# Altium footprint library Adams Altium Library.PcbLib: 104 footprints (part 2 of 7)
Each footprint in its own frame and in the unit in brackets; x right, y up, seen from the top. Pads: shape width x height; smd on the part's side, far side on the other; paste and mask are expansions set on the pad; w line width, h text height; cw(c..) or ccw(c..) is an arc to the next point about the centre after c.
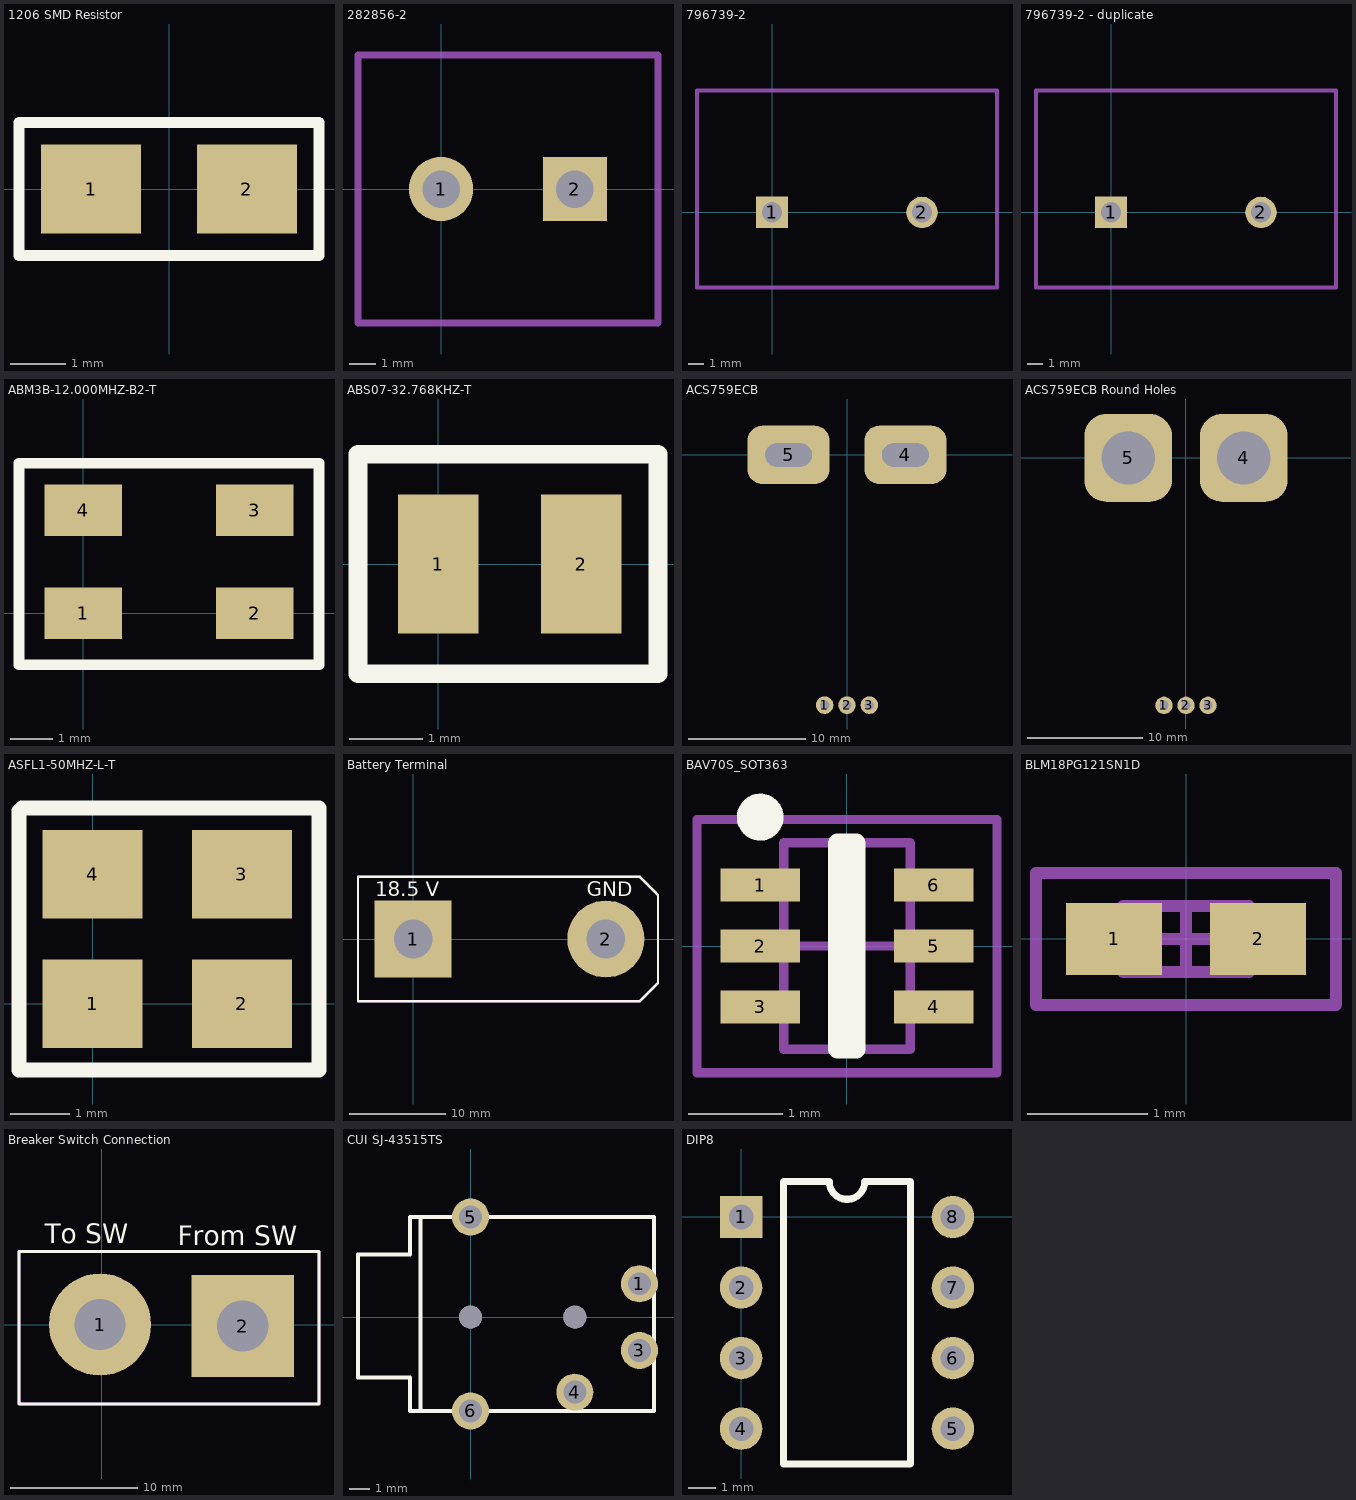
[diagram p1: the footprints below, top view; thin cyan lines are the x and y axes]

## 1206 SMD Resistor [mm]
pads (2):
  rect 1.8x1.6 smd: 1(-1.4,0) 2(1.4,0)
Top Overlay:
  lines w0.2: -2.7,-1.2 -2.7,0 -2.7,1.2 2.7,1.2 2.7,-1.2 -2.7,-1.2

## 282856-2 [mm] "Screw Terminal  two pole"
height 19
pads (2):
  round 2.4 hole 1.4: 1(0,0)
  rect 2.4x2.4 hole 1.4: 2(5,0)
Mechanical 13:
  lines w0.254: -3.1,-5 -3.1,5 8.1,5 8.1,-5 -3.1,-5

## 796739-2 [mm] "796739-2 Screw Terminal"
height 9.53
pads (2):
  rect 2x2 hole 1.3: 1(0,0)
  round 2 hole 1.3: 2(9.52,0)
Mechanical 1:
  lines w0.254: -4.76,-4.76 -4.76,7.74 14.28,7.74 14.28,-4.76 -4.76,-4.76

## 796739-2 - duplicate [mm] "796739-2 30Amp Screw Terminal block"
pads (2):
  rect 2x2 hole 1.3: 1(0,0)
  round 2 hole 1.3: 2(9.52,0)
Mechanical 1:
  lines w0.254: -4.76,-4.76 14.28,-4.76 14.28,7.74 -4.76,7.74 -4.76,-4.76

## ABM3B-12.000MHZ-B2-T [mm] "ABM3B-12.000MHZ-B2-T 12MHZ Crystam Oscillator"
pads (4):
  rect 1.8x1.2 smd: 1(0,0) 2(4,0) 3(4,2.4) 4(0,2.4)
Top Overlay:
  lines w0.254: -1.5,-1.2 5.5,-1.2 5.5,3.5 -1.5,3.5 -1.5,-1.2

## ABS07-32.768KHZ-T [mm] "ABS07-32.768KHZ-T Crystal Oscillator"
pads (2):
  rect 1.1x1.9 smd: 1(0,0) 2(1.95,0)
Top Overlay:
  lines w0.254: -1.1,-1.5 -1.1,1.5 3,1.5 3,-1.5 -1.1,-1.5

## ACS759ECB [mm] "Current Sensor"
height 7
pads (5):
  round 1.5 hole 0.8: 1(-1.91,-21.4) 2(0,-21.4) 3(1.91,-21.4)
  rrect50% 7x5 hole 2 slot 4 at 0 deg: 4(5,0) 5(-5,0)

## ACS759ECB Round Holes [mm] "Current Sensor"
height 7
pads (5):
  round 1.5 hole 0.8: 1(-1.91,-21.4) 2(0,-21.4) 3(1.91,-21.4)
  rrect50% 7.6x7.6 hole 4.6: 4(5,0) 5(-5,0)

## Arduino Leonardo I2C High Byte [mm] "Arduino Lenardo header with I2C and AREF"

## ASFL1-50MHZ-L-T [mm] "Abracon ASFL1-50MHZ-L-T 50MHZ Crystal Oscillator"
pads (4):
  rect 1.7x1.5 smd: 1(0,0) 2(2.54,0) 3(2.54,2.2) 4(0,2.2)
Top Overlay:
  lines w0.254: -1.25,-1.125 3.85,-1.125 3.85,3.325 -1.2,3.325 -1.25,3.275 -1.25,-1.125

## Battery Terminal [mm] "Custom batery Terminal"
pads (2):
  rect 8x8 hole 4: 1(0,0)
  round 8 hole 4: 2(20,0)
Top Overlay:
  lines w0.254: -5.715,-6.477 23.495,-6.477 25.4,-4.572 25.4,4.572 23.495,6.477 -5.715,6.477 -5.715,-6.477
  text "GND" at 18.034,4.445 h1.52
  text "18.5 V" at -3.937,4.445 h1.52
Mechanical 1:
  lines w0.254: -5.715,-6.477 23.495,-6.477 25.4,-4.572 25.4,4.572 23.495,6.477 -5.715,6.477 -5.715,-6.477
Mechanical 13:
  lines w0.254: -5.715,-6.477 23.495,-6.477 25.4,-4.572 25.4,4.572 23.495,6.477 -5.715,6.477 -5.715,-6.477

## BAV70S_SOT363 [mm] "SOT23, 6-Leads, Body 2.2x2.2mm (max), Pitch 0.65mm, IPC Medium Density"
height 1.1
pads (6):
  rect 0.85x0.35 smd: 1(-0.925,0.65) 2(-0.925,0) 3(-0.925,-0.65) 4(0.925,-0.65) 5(0.925,0) 6(0.925,0.65)
Top Overlay:
  circle w0.25: c-0.925,1.375 r0.125
  lines w0.2: -0.1,-1.1 -0.1,1.1 0.1,1.1 0.1,-1.1 -0.1,-1.1
Mechanical 13:
  lines w0.1: -0.675,-1.1 0.675,-1.1 0.675,1.1 -0.675,1.1 -0.675,-1.1
Mechanical 15:
  lines w0.1: -0.5,0 0.5,0 ; 0,-0.5 0,0.5 ; -1.6,-1.35 1.6,-1.35 1.6,1.35 -1.6,1.35 -1.6,-1.35
3D body: height 1.1, standoff 0.8, extent -0.675,-1.1 0.675,1.1

## BLM18PG121SN1D [mm] "Chip Inductor, 2-Leads, Body 1.0x0.5mm, IPC Medium Density"
height 0.6
pads (2):
  rect 0.8x0.6 smd: 1(-0.6,0) 2(0.6,0)
Mechanical 13:
  lines w0.1: -0.525,-0.275 -0.525,0.275 0.525,0.275 0.525,-0.275 -0.525,-0.275
Mechanical 15:
  lines w0.1: -0.275,0 0.275,0 ; 0,-0.275 0,0.275 ; -1.25,-0.55 -1.25,0.55 1.25,0.55 1.25,-0.55 -1.25,-0.55
3D body: height 0.6, standoff 0, extent -0.525,-0.275 0.525,0.275

## Breaker Switch Connection [mm]
pads (2):
  round 8 hole 4: 1(-0.127,0)
  rect 8x8 hole 4: 2(11.049,-0.127)
Top Overlay:
  lines w0.254: -6.477,-6.223 17.018,-6.223 17.018,5.715 -6.477,5.715 -6.477,-6.096 -6.477,-6.223
  text "To SW" at -4.445,6.35 h1.52
  text "From SW" at 5.969,6.223 h1.52
Mechanical 13:
  lines w0.254: -6.477,-6.223 17.018,-6.223 17.018,5.715 -6.477,5.715 -6.477,-6.223

## CUI SJ-43515TS [mm]
pads (7):
  round 1.778 hole 1.1: 1(8.1,1.6) 3(8.1,-1.6) 4(5,-3.6) 5(0,4.8) 6(0,-4.5)
  round 1.1 hole 1.1: ""(0,0) ""(5,0)
Top Overlay:
  lines w0.2: -2.4,-4.4 -2.4,4.7 ; -0.7,-4.5 -2.9,-4.5 -2.9,-2.9 -5.4,-2.9 -5.4,0 -5.4,3 -2.9,3 -2.9,4.8 -0.7,4.8 ; 0.7,-4.5 8.8,-4.5 8.8,4.8 8.6,4.8 0.7,4.8

## DIP8 [mil]
pads (8):
  rect 60x60 hole 35: 1(0,0)
  round 60 hole 35: 2(0,-100) 3(0,-200) 4(0,-300) 5(300,-300) 6(300,-200) 7(300,-100) 8(300,0)
Top Overlay:
  lines w10: 60,-350 240,-350 240,50 175,50 cw(c150,50) 125,50 60,50 60,-350